# Altium footprint library DZ.PcbLib: 1 footprints
Each footprint in its own frame and in the unit in brackets; x right, y up, seen from the top. Pads: shape width x height; smd on the part's side, far side on the other; paste and mask are expansions set on the pad; w line width, h text height; cw(c..) or ccw(c..) is an arc to the next point about the centre after c.
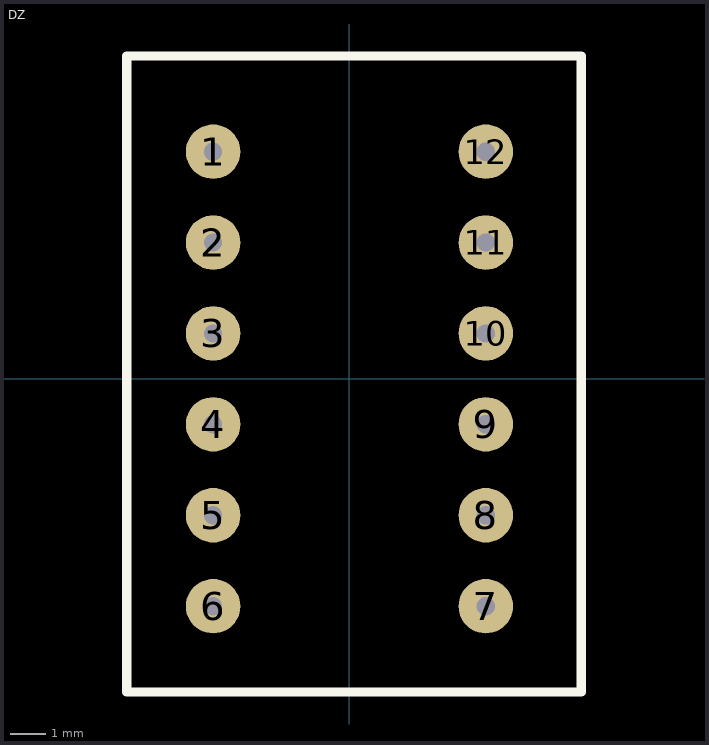
[diagram p0: the footprint, top view; thin cyan lines are the x and y axes]

## DZ [mil]
pads (12):
  round 60 hole 20.08: 1(-150,250) 2(-150,150) 3(-150,50) 4(-150,-50) 5(-150,-150) 6(-150,-250) 7(150,-250) 8(150,-150) 9(150,-50) 10(150,50) 11(150,150) 12(150,250)
Top Overlay:
  lines w10: -245,-344.61 255,-344.61 255,355.39 -245,355.39 -245,-344.61